# Altium footprint library PcbLib1.PcbLib: 2 footprints
Each footprint in its own frame and in the unit in brackets; x right, y up, seen from the top. Pads: shape width x height; smd on the part's side, far side on the other; paste and mask are expansions set on the pad; w line width, h text height; cw(c..) or ccw(c..) is an arc to the next point about the centre after c.
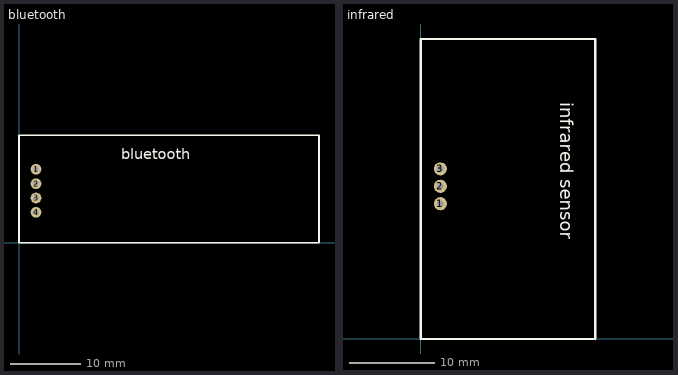
[diagram p0: the footprints below, top view; thin cyan lines are the x and y axes]

## bluetooth [mil]
pads (4):
  round 60 hole 30: 1(95,410) 2(95,330) 3(95,250) 4(95,170)
Top Overlay:
  lines w10: 0,0 0,600 1675,600 1675,0 0,0
  text "bluetooth" at 570,465 h60

## infrared [mil]
pads (3):
  round 60 hole 30: 1(90,620) 2(90,700) 3(90,780)
Top Overlay:
  lines w10: 0,0 0,1375 800,1375 800,0 0,0
  text "infrared sensor" at 640,1085 h60